# EAGLE library part TPS65131RGET (library _mtvl.power)
POSITIVE AND NEGATIVE OUTPUT DC-DC CONVERTER
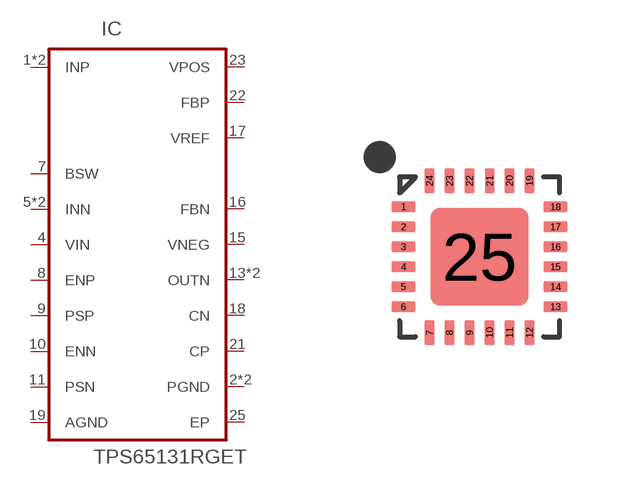
[diagram p7: symbol with the pads of VQFN-24_; footprint VQFN-24_]

Designator prefix IC

## TPS65131RGET (MPN: TPS65131RGET; OC_FARNELL: 1755480; OC_NEWARK: 44J2536; PACKAGE: VQFN-24; SUPPLIER: Texas Instruments)  [VQFN-24_]
1  INP  in
2  PGND  pas
3  PGND  pas
4  VIN  pwr
5  INN  in
6  INN  in
7  BSW  out
8  ENP  in
9  PSP  in
10  ENN  in
11  PSN  in
13  OUTN  out
14  OUTN  out
15  VNEG  in
16  FBN  in
17  VREF  out
18  CN  in
19  AGND  pas
21  CP  in
22  FBP  in
23  VPOS  in
24  INP  in
25  EP  pas

## Footprint VQFN-24_ (pad centres in mm)
VQFN-24
smd 0.6 x 0.25: 1 -1.9,1.25; 2 -1.9,0.75; 3 -1.9,0.25; 4 -1.9,-0.25; 5 -1.9,-0.75; 6 -1.9,-1.25; 13 1.9,-1.25; 14 1.9,-0.75; 15 1.9,-0.25; 16 1.9,0.25; 17 1.9,0.75; 18 1.9,1.25
smd 0.25 x 0.6: 7 -1.25,-1.9; 8 -0.75,-1.9; 9 -0.25,-1.9; 10 0.25,-1.9; 11 0.75,-1.9; 12 1.25,-1.9; 19 1.25,1.9; 20 0.75,1.9; 21 0.254,1.9; 22 -0.25,1.9; 23 -0.75,1.9; 24 -1.25,1.9
smd 2.45 x 2.45: 25 0,0